# Altium footprint library packages.PcbLib: 34 footprints (part 1 of 3)
Each footprint in its own frame and in the unit in brackets; x right, y up, seen from the top. Pads: shape width x height; smd on the part's side, far side on the other; paste and mask are expansions set on the pad; w line width, h text height; cw(c..) or ccw(c..) is an arc to the next point about the centre after c.
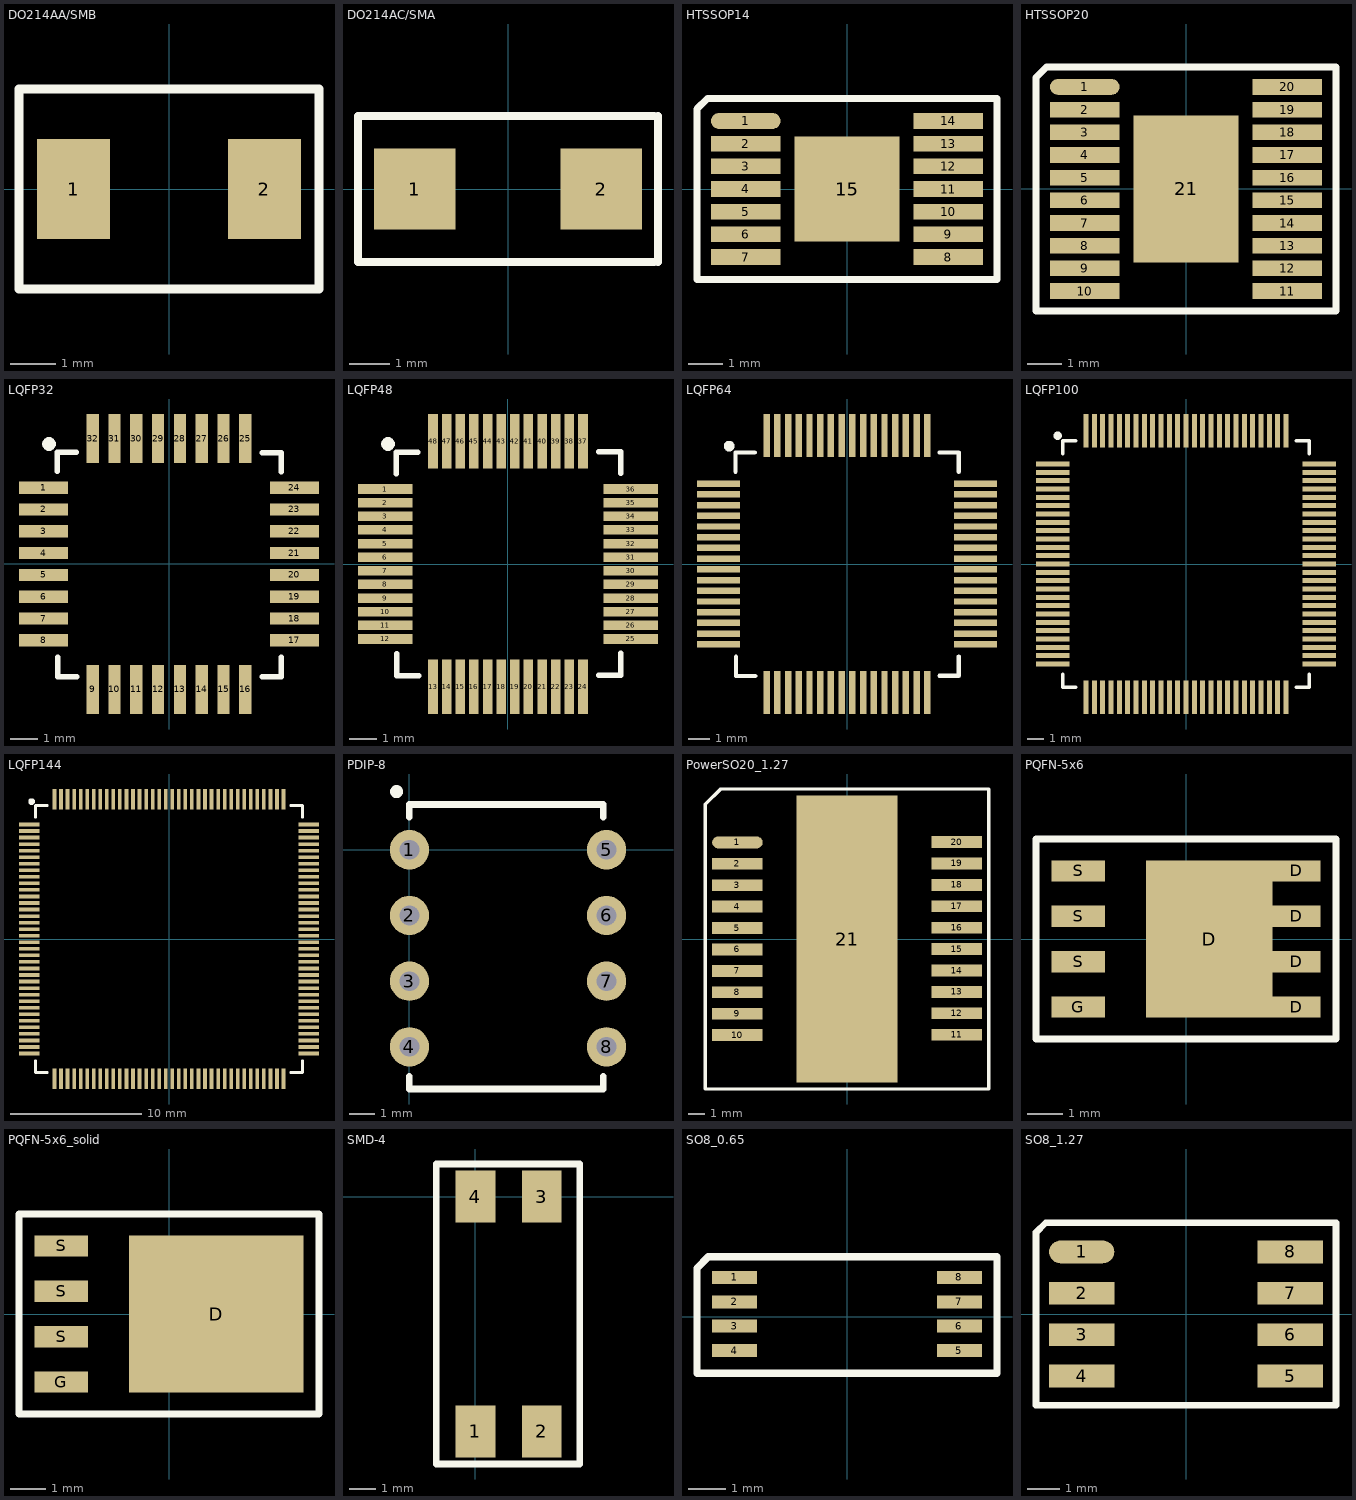
[diagram p0: the footprints below, top view; thin cyan lines are the x and y axes]

## DO214AA/SMB [mm] "SMB diode package"
height 2.3
pads (2):
  rect 1.6x2.2 smd mask+0.1: 1(-2.1,0) 2(2.1,0)
Top Overlay:
  lines w0.2: -3.3,-2.2 3.3,-2.2 3.3,2.2 -3.3,2.2 -3.3,-2.2
3D body "Diode.STEP": height 2.45, standoff 0.03, extent -2.75,-1.95 2.75,1.95

## DO214AC/SMA [mm] "SMA diode package"
height 2.3
pads (2):
  rect 2x2 smd mask+0.1: 1(-2.3,0) 2(2.3,0)
Top Overlay:
  lines w0.2: 3.6,-1.8 -3.7,-1.8 -3.7,1.8 3.6,1.8 ; 3.7,-1.8 3.7,1.8
3D body "Diode SMA.stp": height 2.41, standoff 0, extent -2.641,-1.46 2.639,1.46

## HTSSOP14 [mm] "Dual row, 20 pins, 0.65mm pitch"
height 1.2
pads (15):
  oval 2x0.45 smd mask+0.1: 1(-2.9,1.95)
  rect 2x0.45 smd mask+0.1: 2(-2.9,1.3) 3(-2.9,0.65) 4(-2.9,0) 5(-2.9,-0.65) 6(-2.9,-1.3) 7(-2.9,-1.95) 8(2.9,-1.95) 9(2.9,-1.3) 10(2.9,-0.65) 11(2.9,0) 12(2.9,0.65) 13(2.9,1.3) 14(2.9,1.95)
  rect 3x3 smd mask+0: 15(0,0)
Top Overlay:
  lines w0.2: -4.3,-2.6 4.3,-2.6 4.3,2.6 -4,2.6 -4.3,2.3 -4.3,-2.6
3D body "TSSOP-14.stp": height 1.11, standoff 0.01, extent -3.215,-2.225 3.215,2.225

## HTSSOP20 [mm] "Dual row, 20 pins, 0.65mm pitch"
height 1.2
pads (21):
  oval 2x0.45 smd mask+0.1: 1(-2.9,2.925)
  rect 2x0.45 smd mask+0.1: 2(-2.9,2.275) 3(-2.9,1.625) 4(-2.9,0.975) 5(-2.9,0.325) 6(-2.9,-0.325) 7(-2.9,-0.975) 8(-2.9,-1.625) 9(-2.9,-2.275) 10(-2.9,-2.925) 11(2.9,-2.925) 12(2.9,-2.275) 13(2.9,-1.625) 14(2.9,-0.975) 15(2.9,-0.325) 16(2.9,0.325) 17(2.9,0.975) 18(2.9,1.625) 19(2.9,2.275) 20(2.9,2.925)
  rect 3x4.2 smd mask+0.1: 21(0,0)
Top Overlay:
  lines w0.2: -4.3,-3.5 4.3,-3.5 4.3,3.5 -4,3.5 -4.3,3.2 -4.3,-3.5
3D body "TSSOP-20.stp": height 1.11, standoff 0.01, extent -3.215,-3.198 3.215,3.2

## LQFP32 [mm]
height 1.6
pads (32):
  rect 1.8x0.45 smd mask+0.1: 1(-4.6,2.8) 2(-4.6,2) 3(-4.6,1.2) 4(-4.6,0.4) 5(-4.6,-0.4) 6(-4.6,-1.2) 7(-4.6,-2) 8(-4.6,-2.8) 17(4.6,-2.8) 18(4.6,-2) 19(4.6,-1.2) 20(4.6,-0.4) 21(4.6,0.4) 22(4.6,1.2) 23(4.6,2) 24(4.6,2.8)
  rect 0.45x1.8 smd mask+0.1: 9(-2.8,-4.6) 10(-2,-4.6) 11(-1.2,-4.6) 12(-0.4,-4.6) 13(0.4,-4.6) 14(1.2,-4.6) 15(2,-4.6) 16(2.8,-4.6) 25(2.8,4.6) 26(2,4.6) 27(1.2,4.6) 28(0.4,4.6) 29(-0.4,4.6) 30(-1.2,4.6) 31(-2,4.6) 32(-2.8,4.6)
Top Overlay:
  circle w0.3: c-4.4,4.4 r0.1
  lines w0.2: -4.1,3.4 -4.1,4.1 -3.4,4.1 ; -4.073,-3.427 -4.073,-4.127 -3.373,-4.127 ; 3.411,-4.127 4.111,-4.127 4.111,-3.427 ; 3.411,4.073 4.111,4.073 4.111,3.373
3D body "LQFP32_FPT-32P-M21.stp": height 1.5, standoff 0, extent -4.5,-4.5 4.5,4.5

## LQFP48 [mm]
height 1.6
pads (48):
  rect 2x0.35 smd mask+0.1: 1(-4.5,2.75) 2(-4.5,2.25) 3(-4.5,1.75) 4(-4.5,1.25) 5(-4.5,0.75) 6(-4.5,0.25) 7(-4.5,-0.25) 8(-4.5,-0.75) 9(-4.5,-1.25) 10(-4.5,-1.75) 11(-4.5,-2.25) 12(-4.5,-2.75) 25(4.5,-2.75) 26(4.5,-2.25) 27(4.5,-1.75) 28(4.5,-1.25) 29(4.5,-0.75) 30(4.5,-0.25) 31(4.5,0.25) 32(4.5,0.75) 33(4.5,1.25) 34(4.5,1.75) 35(4.5,2.25) 36(4.5,2.75)
  rect 0.35x2 smd mask+0.1: 13(-2.75,-4.5) 14(-2.25,-4.5) 15(-1.75,-4.5) 16(-1.25,-4.5) 17(-0.75,-4.5) 18(-0.25,-4.5) 19(0.25,-4.5) 20(0.75,-4.5) 21(1.25,-4.5) 22(1.75,-4.5) 23(2.25,-4.5) 24(2.75,-4.5) 37(2.75,4.5) 38(2.25,4.5) 39(1.75,4.5) 40(1.25,4.5) 41(0.75,4.5) 42(0.25,4.5) 43(-0.25,4.5) 44(-0.75,4.5) 45(-1.25,4.5) 46(-1.75,4.5) 47(-2.25,4.5) 48(-2.75,4.5)
Top Overlay:
  circle w0.3: c-4.4,4.4 r0.1
  lines w0.2: -4.1,3.3 -4.1,4.1 -3.3,4.1 ; -4.074,-3.294 -4.074,-4.094 -3.274,-4.094 ; 3.326,-4.078 4.126,-4.078 4.126,-3.278 ; 3.326,4.122 4.126,4.122 4.126,3.322
3D body "LQFP48.STEP": height 1.5, standoff 0, extent -4.513,-4.513 4.513,4.513

## LQFP64 [mm]
height 1.6
pads (64):
  rect 2x0.3 smd mask+0.12: 1(-6,3.75) 2(-6,3.25) 3(-6,2.75) 4(-6,2.25) 5(-6,1.75) 6(-6,1.25) 7(-6,0.75) 8(-6,0.25) 9(-6,-0.25) 10(-6,-0.75) 11(-6,-1.25) 12(-6,-1.75) 13(-6,-2.25) 14(-6,-2.75) 15(-6,-3.25) 16(-6,-3.75) 33(6,-3.75) 34(6,-3.25) 35(6,-2.75) 36(6,-2.25) 37(6,-1.75) 38(6,-1.25) 39(6,-0.75) 40(6,-0.25) 41(6,0.25) 42(6,0.75) 43(6,1.25) 44(6,1.75) 45(6,2.25) 46(6,2.75) 47(6,3.25) 48(6,3.75)
  rect 0.3x2 smd mask+0.12: 17(-3.75,-6) 18(-3.25,-6) 19(-2.75,-6) 20(-2.25,-6) 21(-1.75,-6) 22(-1.25,-6) 23(-0.75,-6) 24(-0.25,-6) 25(0.25,-6) 26(0.75,-6) 27(1.25,-6) 28(1.75,-6) 29(2.25,-6) 30(2.75,-6) 31(3.25,-6) 32(3.75,-6) 49(3.75,6) 50(3.25,6) 51(2.75,6) 52(2.25,6) 53(1.75,6) 54(1.25,6) 55(0.75,6) 56(0.25,6) 57(-0.25,6) 58(-0.75,6) 59(-1.25,6) 60(-1.75,6) 61(-2.25,6) 62(-2.75,6) 63(-3.25,6) 64(-3.75,6)
Top Overlay:
  circle w0.3: c-5.5,5.5 r0.1
  lines w0.2: -5.2,4.3 -5.2,5.2 -4.3,5.2 ; -5.183,-4.327 -5.183,-5.227 -4.283,-5.227 ; 4.317,-5.213 5.217,-5.213 5.217,-4.313 ; 4.317,5.201 5.217,5.201 5.217,4.301
3D body "STM32 LQFP64.step": height 1.6, standoff 0, extent -6,-6 6,6

## LQFP100 [mm]
height 1.6
pads (100):
  rect 2x0.3 smd mask+0.12: 1(-8,6) 2(-8,5.5) 3(-8,5) 4(-8,4.5) 5(-8,4) 6(-8,3.5) 7(-8,3) 8(-8,2.5) 9(-8,2) 10(-8,1.5) 11(-8,1) 12(-8,0.5) 13(-8,0) 14(-8,-0.5) 15(-8,-1) 16(-8,-1.5) 17(-8,-2) 18(-8,-2.5) 19(-8,-3) 20(-8,-3.5) 21(-8,-4) 22(-8,-4.5) 23(-8,-5) 24(-8,-5.5) 25(-8,-6) 51(8,-6) 52(8,-5.5) 53(8,-5) 54(8,-4.5) 55(8,-4) 56(8,-3.5) 57(8,-3) 58(8,-2.5) 59(8,-2) 60(8,-1.5) 61(8,-1) 62(8,-0.5) 63(8,0) 64(8,0.5) 65(8,1) 66(8,1.5) 67(8,2) 68(8,2.5) 69(8,3) 70(8,3.5) 71(8,4) 72(8,4.5) 73(8,5) 74(8,5.5) 75(8,6)
  rect 0.3x2 smd mask+0.12: 26(-6,-8) 27(-5.5,-8) 28(-5,-8) 29(-4.5,-8) 30(-4,-8) 31(-3.5,-8) 32(-3,-8) 33(-2.5,-8) 34(-2,-8) 35(-1.5,-8) 36(-1,-8) 37(-0.5,-8) 38(0,-8) 39(0.5,-8) 40(1,-8) 41(1.5,-8) 42(2,-8) 43(2.5,-8) 44(3,-8) 45(3.5,-8) 46(4,-8) 47(4.5,-8) 48(5,-8) 49(5.5,-8) 50(6,-8) 76(6,8) 77(5.5,8) 78(5,8) 79(4.5,8) 80(4,8) 81(3.5,8) 82(3,8) 83(2.5,8) 84(2,8) 85(1.5,8) 86(1,8) 87(0.5,8) 88(0,8) 89(-0.5,8) 90(-1,8) 91(-1.5,8) 92(-2,8) 93(-2.5,8) 94(-3,8) 95(-3.5,8) 96(-4,8) 97(-4.5,8) 98(-5,8) 99(-5.5,8) 100(-6,8)
Top Overlay:
  circle w0.3: c-7.7,7.7 r0.1
  lines w0.2: -7.4,-6.6 -7.4,-7.4 -6.6,-7.4 ; -7.4,6.6 -7.4,7.4 -6.6,7.4 ; 6.6,-7.4 7.4,-7.4 7.4,-6.6 ; 6.6,7.4 7.4,7.4 7.4,6.6
3D body "STM32F411-LQFP100.step": height 1.6, standoff 0, extent -8.003,-8.003 8.003,8.003

## LQFP144 [mm]
height 1.6
pads (144):
  rect 1.56x0.28 smd mask+0.12: 1(-10.68,8.75) 2(-10.68,8.25) 3(-10.68,7.75) 4(-10.68,7.25) 5(-10.68,6.75) 6(-10.68,6.25) 7(-10.68,5.75) 8(-10.68,5.25) 9(-10.68,4.75) 10(-10.68,4.25) 11(-10.68,3.75) 12(-10.68,3.25) 13(-10.68,2.75) 14(-10.68,2.25) 15(-10.68,1.75) 16(-10.68,1.25) 17(-10.68,0.75) 18(-10.68,0.25) 19(-10.68,-0.25) 20(-10.68,-0.75) 21(-10.68,-1.25) 22(-10.68,-1.75) 23(-10.68,-2.25) 24(-10.68,-2.75) 25(-10.68,-3.25) 26(-10.68,-3.75) 27(-10.68,-4.25) 28(-10.68,-4.75) 29(-10.68,-5.25) 30(-10.68,-5.75) 31(-10.68,-6.25) 32(-10.68,-6.75) 33(-10.68,-7.25) 34(-10.68,-7.75) 35(-10.68,-8.25) 36(-10.68,-8.75) 73(10.68,-8.75) 74(10.68,-8.25) 75(10.68,-7.75) 76(10.68,-7.25) 77(10.68,-6.75) 78(10.68,-6.25) 79(10.68,-5.75) 80(10.68,-5.25) 81(10.68,-4.75) 82(10.68,-4.25) 83(10.68,-3.75) 84(10.68,-3.25) 85(10.68,-2.75) 86(10.68,-2.25) 87(10.68,-1.75) 88(10.68,-1.25) 89(10.68,-0.75) 90(10.68,-0.25) 91(10.68,0.25) 92(10.68,0.75) 93(10.68,1.25) 94(10.68,1.75) 95(10.68,2.25) 96(10.68,2.75) 97(10.68,3.25) 98(10.68,3.75) 99(10.68,4.25) 100(10.68,4.75) 101(10.68,5.25) 102(10.68,5.75) 103(10.68,6.25) 104(10.68,6.75) 105(10.68,7.25) 106(10.68,7.75) 107(10.68,8.25) 108(10.68,8.75)
  rect 0.28x1.56 smd mask+0.12: 37(-8.75,-10.68) 38(-8.25,-10.68) 39(-7.75,-10.68) 40(-7.25,-10.68) 41(-6.75,-10.68) 42(-6.25,-10.68) 43(-5.75,-10.68) 44(-5.25,-10.68) 45(-4.75,-10.68) 46(-4.25,-10.68) 47(-3.75,-10.68) 48(-3.25,-10.68) 49(-2.75,-10.68) 50(-2.25,-10.68) 51(-1.75,-10.68) 52(-1.25,-10.68) 53(-0.75,-10.68) 54(-0.25,-10.68) 55(0.25,-10.68) 56(0.75,-10.68) 57(1.25,-10.68) 58(1.75,-10.68) 59(2.25,-10.68) 60(2.75,-10.68) 61(3.25,-10.68) 62(3.75,-10.68) 63(4.25,-10.68) 64(4.75,-10.68) 65(5.25,-10.68) 66(5.75,-10.68) 67(6.25,-10.68) 68(6.75,-10.68) 69(7.25,-10.68) 70(7.75,-10.68) 71(8.25,-10.68) 72(8.75,-10.68) 109(8.75,10.68) 110(8.25,10.68) 111(7.75,10.68) 112(7.25,10.68) 113(6.75,10.68) 114(6.25,10.68) 115(5.75,10.68) 116(5.25,10.68) 117(4.75,10.68) 118(4.25,10.68) 119(3.75,10.68) 120(3.25,10.68) 121(2.75,10.68) 122(2.25,10.68) 123(1.75,10.68) 124(1.25,10.68) 125(0.75,10.68) 126(0.25,10.68) 127(-0.25,10.68) 128(-0.75,10.68) 129(-1.25,10.68) 130(-1.75,10.68) 131(-2.25,10.68) 132(-2.75,10.68) 133(-3.25,10.68) 134(-3.75,10.68) 135(-4.25,10.68) 136(-4.75,10.68) 137(-5.25,10.68) 138(-5.75,10.68) 139(-6.25,10.68) 140(-6.75,10.68) 141(-7.25,10.68) 142(-7.75,10.68) 143(-8.25,10.68) 144(-8.75,10.68)
Top Overlay:
  circle w0.3: c-10.5,10.5 r0.1
  lines w0.2: -10.2,-9.3 -10.2,-10.2 -9.3,-10.2 ; -10.2,9.3 -10.2,10.2 -9.3,10.2 ; 9.3,-10.2 10.2,-10.2 10.2,-9.3 ; 9.3,10.2 10.2,10.2 10.2,9.3
3D body "LQFP144_FPT-144P-M08.stp": height 1.7, standoff 0, extent -11,-11 11,11

## PDIP-8 [mil]
pads (8):
  round 60 hole 30: 1(0,0) 2(0,-100) 3(0,-200) 4(0,-300) 5(300,0) 6(300,-100) 7(300,-200) 8(300,-300)
Top Overlay:
  circle w11.81: c-19.68,88.58 r3.94
  lines w10: 0,-344.49 0,-364.17 295.28,-364.17 295.28,-344.49 ; 0,49.21 0,68.9 295.28,68.9 295.28,49.21
3D body "PDIP-8.step": height 192.91, standoff -149.61, extent -9.84,-334.64 305.12,39.37

## PowerSO20_1.27 [mm] "Dual row, 20 pins, 1.27mm pitch"
height 1.2
pads (21):
  oval 3x0.7 smd mask+0.1: 1(-6.5,5.73)
  rect 3x0.7 smd mask+0.1: 2(-6.5,4.46) 3(-6.5,3.19) 4(-6.5,1.92) 5(-6.5,0.65) 6(-6.5,-0.62) 7(-6.5,-1.89) 8(-6.5,-3.16) 9(-6.5,-4.43) 10(-6.5,-5.7) 11(6.5,-5.68) 12(6.5,-4.41) 13(6.5,-3.14) 14(6.5,-1.87) 15(6.5,-0.6) 16(6.5,0.67) 17(6.5,1.94) 18(6.5,3.21) 19(6.5,4.48) 20(6.5,5.75)
  rect 6x17 smd mask+0.1: 21(0,0)
Top Overlay:
  lines w0.2: -8.4,-8.9 -8.4,8 -7.5,8.9 8.4,8.9 8.4,-8.9 -8.4,-8.9
3D body "L298P_SO20_MODEL.STEP": height 3.51, standoff -0.09, extent -7.1,-7.95 7.1,7.95

## PQFN-5x6 [mm] "PQFN 5x6 package"
height 2.3
pads (9):
  rect 3.545x4.41 smd mask+0.1: D(0.65,0)
  rect 1.35x0.6 smd mask+0.1: D(3.095,-1.905) D(3.095,-0.635) D(3.095,0.635) D(3.095,1.905)
  rect 1.5x0.6 smd mask+0.1: G(-3.02,-1.905) S(-3.02,-0.635) S(-3.02,0.635) S(-3.02,1.905)
Top Overlay:
  lines w0.2: -4.2,-2.8 4.2,-2.8 4.2,2.8 -4.2,2.8 -4.2,-2.8
3D body "User Library-PQFN8_5X6.stp": height 1, standoff 0, extent -3.1,-2.55 3.1,2.55

## PQFN-5x6_solid [mm] "PQFN 5x6 package with solid pad"
height 2.3
pads (5):
  rect 4.895x4.41 smd mask+0.1: D(1.325,0)
  rect 1.5x0.6 smd mask+0.1: G(-3.02,-1.905) S(-3.02,-0.635) S(-3.02,0.635) S(-3.02,1.905)
Top Overlay:
  lines w0.2: -4.2,-2.8 -4.2,2.8 4.2,2.8 4.2,-2.8 -4.2,-2.8
3D body "User Library-PQFN8_5X6.stp": height 1, standoff 0, extent -3.1,-2.55 3.1,2.55

## SMD-4 [mm] "SMD-4"
pads (4):
  rect 1.524x2 smd: 1(0,-9) 2(2.54,-9) 3(2.54,0) 4(0,0)
Top Overlay:
  lines w0.254: -1.5,-10.25 4,-10.25 4,1.25 -1.5,1.25 -1.5,-10.25
3D body "PC817_SMT.step": height 4.25, standoff 0.07, extent -1.04,-9.789 3.54,0.789

## SO8_0.65 [mm]
height 1.2
pads (8):
  rect 1.2x0.35 smd mask+0.1: 1(-3,1.05) 2(-3,0.4) 3(-3,-0.25) 4(-3,-0.9) 5(3,-0.9) 6(3,-0.25) 7(3,0.4) 8(3,1.05)
Top Overlay:
  lines w0.2: -4,-1.5 4,-1.5 4,1.6 -3.7,1.6 -4,1.3 -4,-1.5
Top Solder:
  region: 3.7,1.325 2.3,1.325 2.3,-1.175 3.7,-1.175
  rectangle: -3.7,-1.175 -2.3,1.325
3D body "TSSOP-08.stp": height 1.11, standoff 0.01, extent -3.215,-1.174 3.216,1.324

## SO8_1.27 [mm]
height 1.75
pads (8):
  oval 2x0.7 smd mask+0.1: 1(-3.2,1.905)
  rect 2x0.7 smd mask+0.1: 2(-3.2,0.635) 3(-3.2,-0.635) 4(-3.2,-1.905) 5(3.2,-1.905) 6(3.2,-0.635) 7(3.2,0.635) 8(3.2,1.905)
Top Overlay:
  lines w0.2: -4.6,-2.8 -4.6,2.5 -4.3,2.8 4.6,2.8 4.6,-2.8 -4.6,-2.8
3D body "MS-012AA.stp": height 1.75, standoff 0, extent -3.1,-2.5 3.1,2.5